# EAGLE library part HLK-7628N (library HLK-7628N)
WIFI Modules RoHS Source: Datasheet <https://datasheet.lcsc.com/szlcsc/1907260930_HI-LINK-HLK-7628N_C209920.pdf>
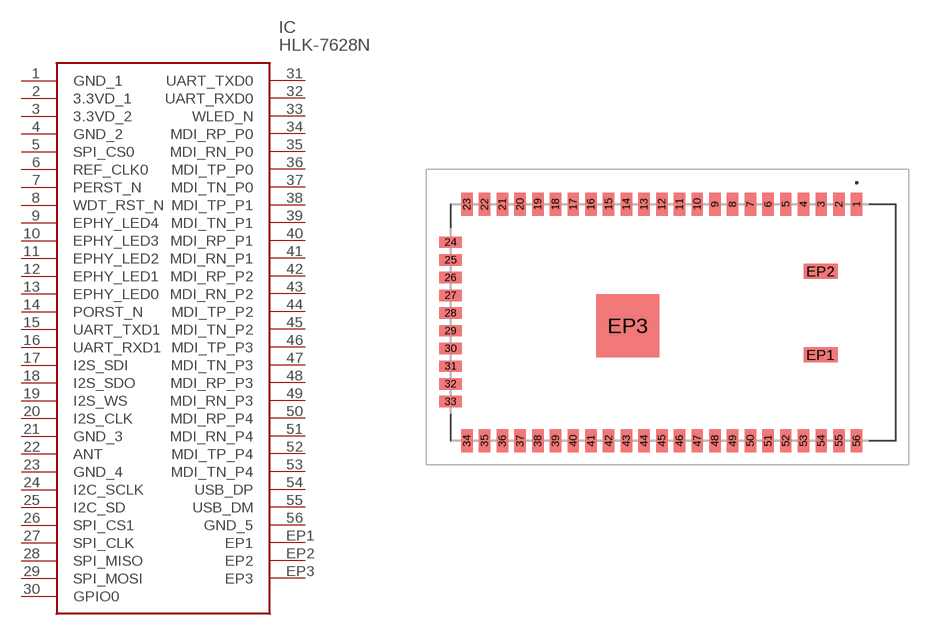
[diagram p0: symbol with the pads of HLK7628N; footprint HLK7628N]

Designator prefix IC

## HLK-7628N (Description: WIFI Modules RoHS; Height: 2.8mm; Manufacturer_Name: Hi-Link; Manufacturer_Part_Number: HLK-7628N)  [HLK7628N]
1  GND_1
2  3.3VD_1
3  3.3VD_2
4  GND_2
5  SPI_CS0
6  REF_CLK0
7  PERST_N
8  WDT_RST_N
9  EPHY_LED4
10  EPHY_LED3
11  EPHY_LED2
12  EPHY_LED1
13  EPHY_LED0
14  PORST_N
15  UART_TXD1
16  UART_RXD1
17  I2S_SDI
18  I2S_SDO
19  I2S_WS
20  I2S_CLK
21  GND_3
22  ANT
23  GND_4
24  I2C_SCLK
25  I2C_SD
26  SPI_CS1
27  SPI_CLK
28  SPI_MISO
29  SPI_MOSI
30  GPIO0
31  UART_TXD0
32  UART_RXD0
33  WLED_N
34  MDI_RP_P0
35  MDI_RN_P0
36  MDI_TP_P0
37  MDI_TN_P0
38  MDI_TP_P1
39  MDI_TN_P1
40  MDI_RP_P1
41  MDI_RN_P1
42  MDI_RP_P2
43  MDI_RN_P2
44  MDI_TP_P2
45  MDI_TN_P2
46  MDI_TP_P3
47  MDI_TN_P3
48  MDI_RP_P3
49  MDI_RN_P3
50  MDI_RP_P4
51  MDI_RN_P4
52  MDI_TP_P4
53  MDI_TN_P4
54  USB_DP
55  USB_DM
56  GND_5
EP1  EP1
EP2  EP2
EP3  EP3

## Footprint HLK7628N (pad centres in mm)
HLK-7628N-3
smd 0.9 x 1.8: 1 14.5,9.35; 2 13.1,9.35; 3 11.7,9.35; 4 10.3,9.35; 5 8.9,9.35; 6 7.5,9.35; 7 6.1,9.35; 8 4.7,9.35; 9 3.3,9.35; 10 1.9,9.35; 11 0.5,9.35; 12 -0.9,9.35; 13 -2.3,9.35; 14 -3.7,9.35; 15 -5.1,9.35; 16 -6.5,9.35; 17 -7.9,9.35; 18 -9.3,9.35; 19 -10.7,9.35; 20 -12.1,9.35; 21 -13.5,9.35; 22 -14.9,9.35; 23 -16.3,9.35; 34 -16.3,-9.35; 35 -14.9,-9.35; 36 -13.5,-9.35; 37 -12.1,-9.35; 38 -10.7,-9.35; 39 -9.3,-9.35; 40 -7.9,-9.35; 41 -6.5,-9.35; 42 -5.1,-9.35; 43 -3.7,-9.35; 44 -2.3,-9.35; 45 -0.9,-9.35; 46 0.5,-9.35; 47 1.9,-9.35; 48 3.3,-9.35; 49 4.7,-9.35; 50 6.1,-9.35; 51 7.5,-9.35; 52 8.9,-9.35; 53 10.3,-9.35; 54 11.7,-9.35; 55 13.1,-9.35; 56 14.5,-9.35
smd 1.8 x 0.9: 24 -17.6,6.35; 25 -17.6,4.95; 26 -17.6,3.55; 27 -17.6,2.15; 28 -17.6,0.75; 29 -17.6,-0.65; 30 -17.6,-2.05; 31 -17.6,-3.45; 32 -17.6,-4.85; 33 -17.6,-6.25
smd 2.7 x 1.2: EP1 11.65,-2.55; EP2 11.65,4.05
smd 5 x 5: EP3 -3.6,-0.25